# Altium schematic symbol library NPN+PNP.A1.SchLib: 1 symbol
Pins are listed as number, name and electrical type; pins without a type are passive.

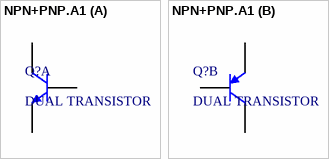
[diagram p0: symbol NPN+PNP.A1]

## NPN+PNP.A1
designator Q?, comment DUAL TRANSISTOR
DUAL TRANSISTOR (NPN+PNP)
part A pins: 1 E, 2 B, 6 C
part B pins: 3 C, 4 E, 5 B